# Altium integrated library PRESENCE_SENSORS.IntLib: 2 symbols
Pins are listed as number, name and electrical type; pins without a type are passive.

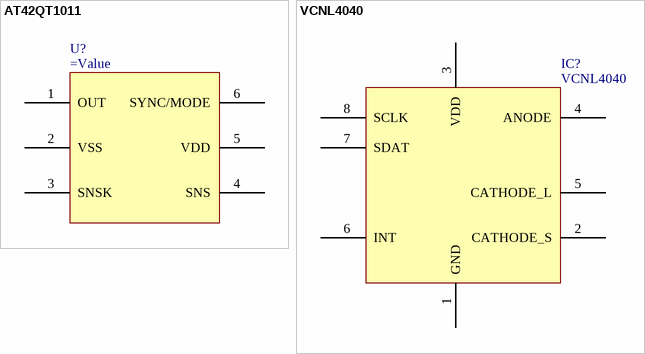
[diagram p0: symbols AT42QT1011 to VCNL4040]

## AT42QT1011
designator U?
footprint SOT23-6 (SOT23, 6-Leads, Body 2,90x2,80mm, Pitch 0,95mm, IPC Medium Density)
pins: 1 OUT, 2 VSS, 3 SNSK, 4 SNS, 5 VDD, 6 SYNC/MODE

## VCNL4040
designator IC?
footprint PCBComponent_1
pins: 1 GND, 2 CATHODE_S, 3 VDD, 4 ANODE, 5 CATHODE_L, 6 INT, 7 SDAT, 8 SCLK